# Altium schematic symbol library LMR51450FSQDRRRQ1.SchLib: 1 symbol
Pins are listed as number, name and electrical type; pins without a type are passive.

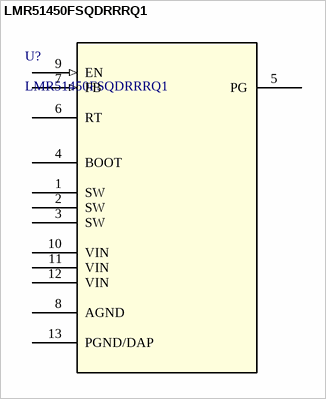
[diagram p0: symbol LMR51450FSQDRRRQ1]

## LMR51450FSQDRRRQ1
designator U?
Automotive, 36V 5A synchronous buck converter with low Iq 12-WSON -40 to 125; Manufacturer_Name: Texas Instruments; Copyright: Copyright (C) 2025 Ultra Librarian. All rights reserved.; Manufacturer_Part_Number: LMR51450FSQDRRRQ1; RefDes: RefDes; Type: Type
footprint WSON12_DRR_TEX
pins: 1 SW (power), 2 SW (power), 3 SW (power), 4 BOOT (power), 5 PG, 6 RT, 7 FB (in), 8 AGND (power), 9 EN (in), 10 VIN (power), 11 VIN (power), 12 VIN (power), 13 PGND/DAP (power)